# Altium schematic symbol library Schlib1.SchLib: 79 symbols (part 1 of 3)
Pins are listed as number, name and electrical type; pins without a type are passive.

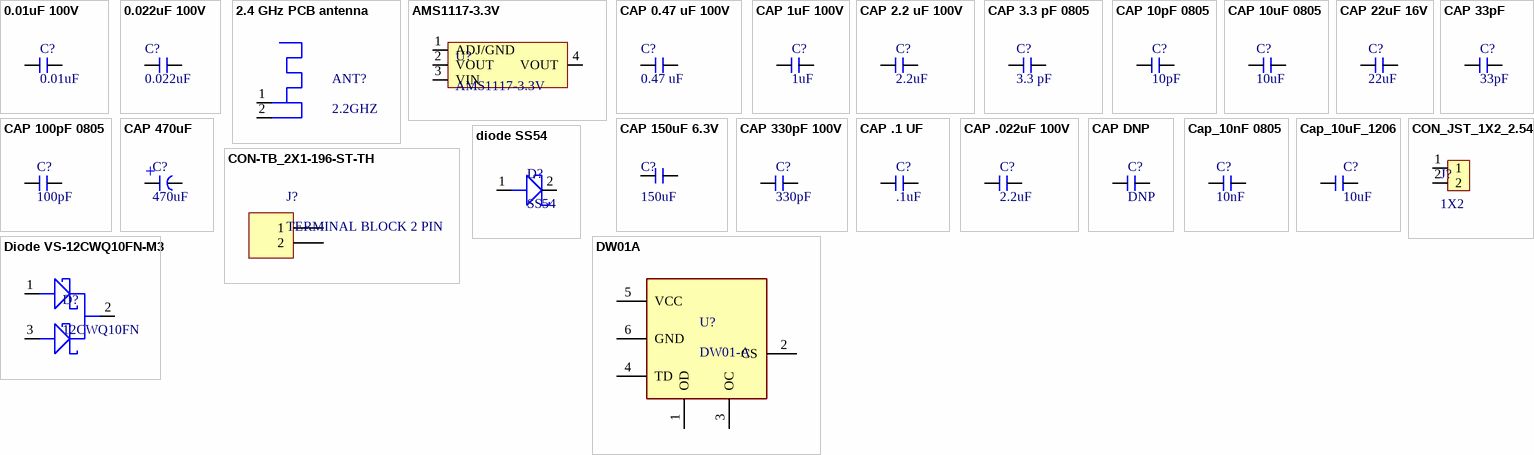
[diagram p0: symbols 0.01uF 100V to DW01A]

## 0.01uF 100V
designator C?, comment 0.01uF
Mlcc X2Y 0805 10000PF 100V X7R; Manufacturer: Johanson; Manufacturer Part Number: EMCT101W103M1GV001E; Supplier: Digikey; Supplier Part Number: 709-EMCT101W103M1GV001ECT-ND; RoHS: Yes; Category: Ceramic Capacitors; Stock: 10203; Pricing: 1=0,42, 10=0,255, 100=0,1692, 1000=0,12463 (USD); RoHS Compliant: Yes
footprint Capacitor_0805
pins: 1, 2

## 0.022uF 100V
designator C?, comment 0.022uF
Surface Mount Ceramic Multilayer Capacitor 0.022uF 10% X7R 100V 0805 Paper T/R; Manufacturer: Yageo; Manufacturer Part Number: CC0805KRX7R0BB223; Value: 22nF; Supplier: Digikey; Supplier Part Number: 311-1473-1-ND; RoHS: Yes; Category: Ceramic Capacitors; Stock: 16332; Pricing: 1=0,1, 10=0,056, 100=0,0332, 1000=0,02163 (USD); Mounting Technology: Surface Mount; Case/Package: 0805; Case Code (Imperial): 0805; Case Code (Metric): 2012; Weight: 0.000194oz; Min Operating Temperature: -55°C; Max Operating Temperature: 125°C; Packaging: Tape and Reel; Package Quantity: 1; Tolerance: 10%; Voltage Rating: 100V; Dielectric: X7R; Voltage Rating (DC): 100V; Termination: SMD/SMT; Voltage: 100V; Series: CC; Length: 2mm; Width: 0.049inch; Height: 0.85mm; Thickness: 0.037inch; Depth: 1.25mm; Radiation Hardening: No; RoHS Compliant: Yes; Reach SVHC Compliant: Unknown; Lead Free: 5697LeadFree; ComponentLink1URL: https://datasheet.ciiva.com/25613/0900766b80528518-25613134.pdf?src-supplier=Rs; ComponentLink1Description: https://datasheet.ciiva.com/25613/0900766b80528518-25613134.pdf?src-supplier=Rs; ComponentLink2URL: https://datasheet.ciiva.com/11786/0900766b80d84f7f-11786064.pdf?src-supplier=Rs; ComponentLink2Description: https://datasheet.ciiva.com/11786/0900766b80d84f7f-11786064.pdf?src-supplier=Rs; ComponentLink3URL: https://datasheet.ciiva.com/7978/1447671-7978202.pdf?src-supplier=Element14; ComponentLink3Description: https://datasheet.ciiva.com/7978/1447671-7978202.pdf?src-supplier=Element14; ComponentLink4URL: https://datasheet.ciiva.com/176/mlccorderingcode-176941.pdf?src-supplier=Digikey; ComponentLink4Description: https://datasheet.ciiva.com/176/mlccorderingcode-176941.pdf?src-supplier=Digikey; ComponentLink5URL: https://datasheet.ciiva.com/176/mlccorderingcode-176940.pdf?src-supplier=Digikey; ComponentLink5Description: https://datasheet.ciiva.com/176/mlccorderingcode-176940.pdf?src-supplier=Digikey; ComponentLink6URL: https://datasheet.ciiva.com/176/mlccorderingcode-176942.pdf?src-supplier=Digikey; ComponentLink6Description: https://datasheet.ciiva.com/176/mlccorderingcode-176942.pdf?src-supplier=Digikey; ComponentLink7URL: https://datasheet.ciiva.com/11465/upy-np0x7r-mv-100-to-630v-9-11465277.pdf?src-supplier=Avnet; ComponentLink7Description: https://datasheet.ciiva.com/11465/upy-np0x7r-mv-100-to-630v-9-11465277.pdf?src-supplier=Avnet; ComponentLink8URL: https://datasheet.ciiva.com/17033/upy-np0x7r-mv-100-to-630v-9-17033259.pdf?src-supplier=Future+Electronics; ComponentLink8Description: https://datasheet.ciiva.com/17033/upy-np0x7r-mv-100-to-630v-9-17033259.pdf?src-supplier=Future+Electronics; ComponentLink9URL: https://datasheet.ciiva.com/26829/getdatasheetpartid-251804-26829547.pdf?src-supplier=Verical; ComponentLink9Description: https://datasheet.ciiva.com/26829/getdatasheetpartid-251804-26829547.pdf?src-supplier=Verical
footprint Capacitor_0805
pins: 1, 2

## 2.4 GHz PCB antenna
designator ANT?, comment 2.2GHZ
footprint 2.4 GHz PCB antenna
pins: 1, 2

## AMS1117-3.3V
designator U?
1A Fixed 3.3V 18V SOT-223 Voltage Regulators - Linear, Low Drop Out (LDO) Regulators ROHS; Manufacturer: Tech Public; Supplier: LCSC; Supplier Part Number: C20611856; Manufacturer Part Number: AMS1117-3.3V; RoHS: No; Category: LDO; Stock: 2690; Pricing: 10=0,0402, 100=0,0315, 300=0,0271, 1000=0,0239, 4000=0,0213, 8000=0,02 (USD)
footprint SOT-223
pins: 1 ADJ/GND, 2 VOUT, 3 VIN, 4 VOUT

## CAP 0.47 uF 100V
designator C?, comment 0.47 uF
Multilayer Ceramic Capacitor, 0.47 uF, 100 V, ï¿½ 10%, X7R, 0805 [2012 Metric]; Manufacturer: Murata; Manufacturer Part Number: GRM21BR72A474KA73L; Supplier: Mouser; Supplier Part Number: 81-GRM21BR72A474KA73; RoHS: Yes; Category: Ceramic Capacitors; Stock: 10191; Pricing: 1=0,43, 10=0,242, 50=0,242, 100=0,172, 1000=0,153, 10000=0,093 (USD); Lead Free: 5697LeadFree; ComponentLink1URL: https://datasheet.ciiva.com/140/grm21br72a474ka73-140555.pdf?src-supplier=Digikey; ComponentLink1Description: https://datasheet.ciiva.com/140/grm21br72a474ka73-140555.pdf?src-supplier=Digikey; ComponentLink2URL: https://datasheet.ciiva.com/140/grm21br72a474ka73-140556.pdf?src-supplier=Digikey; ComponentLink2Description: https://datasheet.ciiva.com/140/grm21br72a474ka73-140556.pdf?src-supplier=Digikey; ComponentLink3URL: https://datasheet.ciiva.com/3777/247grm21br72a474ka7323-3777925.pdf?src-supplier=Arrow+Electronics; ComponentLink3Description: https://datasheet.ciiva.com/3777/247grm21br72a474ka7323-3777925.pdf?src-supplier=Arrow+Electronics; ComponentLink4URL: https://datasheet.ciiva.com/16440/product-16440636.pdf?src-supplier=Future+Electronics; ComponentLink4Description: https://datasheet.ciiva.com/16440/product-16440636.pdf?src-supplier=Future+Electronics; ComponentLink5URL: https://datasheet.ciiva.com/11621/product-11621821.pdf?src-supplier=Avnet; ComponentLink5Description: https://datasheet.ciiva.com/11621/product-11621821.pdf?src-supplier=Avnet
footprint Capacitor_0805
pins: 1, 2

## CAP 1uF 100V
designator C?, comment 1uF
SMD Multilayer Ceramic Capacitor, 1 ï¿½F, 100 V, 0805 [2012 Metric], ï¿½ 10%, X7S; Manufacturer: Murata; Manufacturer Part Number: GRJ21BC72A105KE11L; Material: 4241ConductorMaterial; Voltage Rating (DC): 100V; Supplier: Mouser; Supplier Part Number: 81-GRJ21BC72A105KE1L; RoHS: Yes; Category: Ceramic Capacitors; Stock: 101440; Pricing: 1=0,36, 10=0,148, 50=0,148, 100=0,123, 1000=0,115, 10000=0,071 (USD); Height: 1.5mm; ComponentLink1URL: http://www.farnell.com/datasheets/2793683.pdf?src-supplier=Farnell; ComponentLink1Description: http://www.farnell.com/datasheets/2793683.pdf?src-supplier=Farnell; ComponentLink2URL: https://datasheet.octopart.com/GRJ21BC72A105KE11L-Murata-datasheet-62335535.pdf?src-supplier=Element14; ComponentLink2Description: https://datasheet.octopart.com/GRJ21BC72A105KE11L-Murata-datasheet-62335535.pdf?src-supplier=Element14; ComponentLink3URL: http://www.farnell.com/datasheets/2793683.pdf?src-supplier=Element14; ComponentLink3Description: http://www.farnell.com/datasheets/2793683.pdf?src-supplier=Element14; ComponentLink4URL: https://datasheet.octopart.com/GRJ21BC72A105KE11L-Murata-datasheet-32479577.pdf?src-supplier=Future+Electronics; ComponentLink4Description: https://datasheet.octopart.com/GRJ21BC72A105KE11L-Murata-datasheet-32479577.pdf?src-supplier=Future+Electronics; ComponentLink5URL: http://www.farnell.com/datasheets/2793683.pdf?src-supplier=Newark; ComponentLink5Description: http://www.farnell.com/datasheets/2793683.pdf?src-supplier=Newark; ComponentLink6URL: https://www.murata.com/~/media/webrenewal/support/library/catalog/products/k70e.ashx?la=en-us&src-supplier=Digikey; ComponentLink6Description: https://www.murata.com/~/media/webrenewal/support/library/catalog/products/k70e.ashx?la=en-us&src-supplier=Digikey; ComponentLink7URL: https://datasheet.octopart.com/GRJ21BC72A105KE11L-Murata-datasheet-165579666.pdf?src-supplier=TME; ComponentLink7Description: https://datasheet.octopart.com/GRJ21BC72A105KE11L-Murata-datasheet-165579666.pdf?src-supplier=TME
footprint Capacitor_0805
pins: 1, 2

## CAP 2.2 uF 100V
designator C?, comment 2.2uF
Ceramic Capacitor Multilayer Ceramic 100V 20% +tol 20% -tol X7T 22/-33% Tc 2.2UF Surface Mount 0805; Manufacturer: Murata; Manufacturer Part Number: GRM21BD72A225ME01K; Material: 4241ConductorMaterial; Dielectric: 1545DielectricType; Supplier: Mouser; Supplier Part Number: 81-GRM21BD72A225ME1K; RoHS: No; Category: Ceramic Capacitors; Stock: 42487; Pricing: 1=0,41, 10=0,247, 50=0,247, 100=0,164, 1000=0,12, 10000=0,092 (USD); Case/Package: 339Case; Min Operating Temperature: -55°C; Max Operating Temperature: 125°C; Voltage Rating: 100V; Voltage Rating (DC): 100V; Value: 2.2uF; Tolerance: 20%; Length: 2mm; Width: 1.25mm; Height: 1.45mm; Thickness: 1.25mm
footprint Capacitor_0805
pins: 1, 2

## CAP 3.3 pF 0805
designator C?, comment 3.3 pF
Multilayer Ceramic Capacitor, 3.3 pF, 50 V, ± 0.1pF, C0G (NP0), 0805 [2012 Metric]; Manufacturer: Yageo; Manufacturer Part Number: CC0805BRNPO9BN3R3; Supplier: Digikey; Supplier Part Number: 311-4130-1-ND; RoHS: Yes; Category: Ceramic Capacitors; Stock: 19725; Pricing: 1=0,13, 10=0,075, 100=0,0453, 1000=0,03028 (USD); Halogen Free: 5694HalogenFree; ComponentLink1URL: http://www.mouser.com/ds/2/447/Yageo_UPY-GP_NP0_16V-to-50V_9-358835.pdf?src-supplier=Mouser; ComponentLink1Description: http://www.mouser.com/ds/2/447/Yageo_UPY-GP_NP0_16V-to-50V_9-358835.pdf?src-supplier=Mouser; ComponentLink2URL: https://datasheet.octopart.com/CC0805BRNPO9BN3R3-Yageo-datasheet-151948684.pdf?src-supplier=Newark; ComponentLink2Description: https://datasheet.octopart.com/CC0805BRNPO9BN3R3-Yageo-datasheet-151948684.pdf?src-supplier=Newark; ComponentLink3URL: https://datasheet.octopart.com/CC0805BRNPO9BN3R3-Yageo-datasheet-151948684.pdf?src-supplier=Farnell; ComponentLink3Description: https://datasheet.octopart.com/CC0805BRNPO9BN3R3-Yageo-datasheet-151948684.pdf?src-supplier=Farnell; ComponentLink4URL: http://www.yageo.com/documents/recent/UPY-GP_NP0_16V-to-50V_8.pdf?src-supplier=Avnet; ComponentLink4Description: http://www.yageo.com/documents/recent/UPY-GP_NP0_16V-to-50V_8.pdf?src-supplier=Avnet; ComponentLink5URL: https://www.yageo.com/upload/media/product/productsearch/datasheet/mlcc/UPY-GP_NP0_16V-to-50V_18.pdf?src-supplier=Digikey; ComponentLink5Description: https://www.yageo.com/upload/media/product/productsearch/datasheet/mlcc/UPY-GP_NP0_16V-to-50V_18.pdf?src-supplier=Digikey; ComponentLink6URL: http://www.yageo.com/exep/pages/download/literatures/ProductSelectionGuide%202014_Final_2.pdf?src-supplier=Digikey; ComponentLink6Description: http://www.yageo.com/exep/pages/download/literatures/ProductSelectionGuide%202014_Final_2.pdf?src-supplier=Digikey; ComponentLink7URL: http://www.yageo.com/documents/recent/UPY-GP_NP0_16V-to-50V_9.pdf?src-supplier=Future+Electronics; ComponentLink7Description: http://www.yageo.com/documents/recent/UPY-GP_NP0_16V-to-50V_9.pdf?src-supplier=Future+Electronics; ComponentLink8URL: https://datasheet.octopart.com/CC0805BRNPO9BN3R3-Yageo-datasheet-137700082.pdf?src-supplier=Future+Electronics; ComponentLink8Description: https://datasheet.octopart.com/CC0805BRNPO9BN3R3-Yageo-datasheet-137700082.pdf?src-supplier=Future+Electronics
footprint Capacitor_0805
pins: 1, 2

## CAP 10pF 0805
designator C?, comment 10pF
Multilayer Ceramic Capacitor, 10 pF, 50 V, ï¿½ 5%, C0G (NP0), 0805 [2012 Metric]; Manufacturer: Yageo; Manufacturer Part Number: CC0805JRNPO9BN100; Temperature Coefficient: 30ppm/°C; Supplier: Digikey; Supplier Part Number: 311-1099-1-ND; RoHS: Yes; Category: Ceramic Capacitors; Stock: 29904; Pricing: 1=0,1, 10=0,048, 100=0,0284, 1000=0,01828 (USD); Pins: 2NUMBER; Halogen Free: 5694HalogenFree; Lead Free: 5697LeadFree; ComponentLink1URL: https://datasheet.ciiva.com/144/mlccorderingcode-144670.pdf?src-supplier=Digikey; ComponentLink1Description: https://datasheet.ciiva.com/144/mlccorderingcode-144670.pdf?src-supplier=Digikey; ComponentLink2URL: https://datasheet.ciiva.com/144/mlccorderingcode-144671.pdf?src-supplier=Digikey; ComponentLink2Description: https://datasheet.ciiva.com/144/mlccorderingcode-144671.pdf?src-supplier=Digikey; ComponentLink3URL: https://datasheet.ciiva.com/144/mlccorderingcode-144672.pdf?src-supplier=Digikey; ComponentLink3Description: https://datasheet.ciiva.com/144/mlccorderingcode-144672.pdf?src-supplier=Digikey; ComponentLink4URL: https://datasheet.ciiva.com/11464/upy-gp-np0-16v-to-50v-8-11464744.pdf?src-supplier=Avnet; ComponentLink4Description: https://datasheet.ciiva.com/11464/upy-gp-np0-16v-to-50v-8-11464744.pdf?src-supplier=Avnet
footprint Capacitor_0805
pins: 1, 2

## CAP 10uF 0805
designator C?, comment 10uF
16V 10uF X7R ±10% 0805 Multilayer Ceramic Capacitors MLCC - SMD/SMT ROHS; Manufacturer: Samsung; Manufacturer Part Number: CL21B106KOQNNNE; Material: 4241ConductorMaterial; Supplier: Digikey; Supplier Part Number: 1276-2872-1-ND; RoHS: Yes; Category: Ceramic Capacitors; Stock: 20461; Pricing: 1=0,09, 10=0,037, 100=0,0354 (USD); Mounting Technology: Surface Mount; Case/Package: 0805; Case Code (Metric): 2012; Case Code (Imperial): 0805; Min Operating Temperature: -55°C; Max Operating Temperature: 125°C; Tolerance: 10%; Packaging: Tape and Reel; Value: 10uF; Voltage Rating: 16V; Package Quantity: 1; Dielectric: X7R; Voltage: 16V; Series: CL; Construction: Flat; Voltage Rating (DC): 16V; Length: 2mm; Width: 0.049inch; Height: 1.25mm; Thickness: 0.055inch; Depth: 1.25mm; Radiation Hardening: No; RoHS Compliant: Yes; ComponentLink1URL: https://datasheet.ciiva.com/25794/cl21b106koqnnne-25794472.pdf?src-supplier=Digikey; ComponentLink1Description: https://datasheet.ciiva.com/25794/cl21b106koqnnne-25794472.pdf?src-supplier=Digikey; ComponentLink2URL: https://datasheet.ciiva.com/16428/cl21b106koqnnne-16428887.pdf?src-supplier=Future+Electronics; ComponentLink2Description: https://datasheet.ciiva.com/16428/cl21b106koqnnne-16428887.pdf?src-supplier=Future+Electronics; ComponentLink3URL: https://datasheet.ciiva.com/26920/getdatasheetpartid-355170-26920201.pdf?src-supplier=Verical; ComponentLink3Description: https://datasheet.ciiva.com/26920/getdatasheetpartid-355170-26920201.pdf?src-supplier=Verical
footprint Capacitor_0805
pins: 1, 2

## CAP 22uF 16V
designator C?, comment 22uF
0805 22 uF 16 V ±20% Tolerance X5R SMT Multilayer Ceramic Capacitor; Manufacturer: Yageo; Manufacturer Part Number: CC0805MKX5R7BB226; Voltage Rating: 16V; Supplier: Digikey; Supplier Part Number: 13-CC0805MKX5R7BB226CT-ND; RoHS: Yes; Category: Ceramic Capacitors; Stock: 2753; Pricing: 1=0,47, 10=0,286, 100=0,191, 1000=0,14191 (USD); Mounting Technology: Surface Mount; Case/Package: 0805; Case Code (Metric): 2012; Case Code (Imperial): 0805; Weight: 0.000194oz; Min Operating Temperature: -55°C; Max Operating Temperature: 85°C; Value: 22uF; Dielectric: X5R; Packaging: Tape and Reel; Tolerance: 20%; Termination: SMD/SMT; Voltage Rating (DC): 16V; Package Quantity: 3000; Series: CC; Length: 0.079inch; Width: 0.049inch; Thickness: 0.057inch; Lead Free: Lead Free; Halogen Free: Halogen Free; RoHS Compliant: Yes; ComponentLink1URL: http://www.yageo.com/documents/recent/UPY-GPHC_X5R_4V-to-50V_25.pdf?src-supplier=Digikey; ComponentLink1Description: http://www.yageo.com/documents/recent/UPY-GPHC_X5R_4V-to-50V_25.pdf?src-supplier=Digikey; ComponentLink2URL: https://www.yageo.com/upload/media/product/productsearch/datasheet/mlcc/UPY-GPHC_X5R_4V-to-50V_26.pdf?src-supplier=Digikey; ComponentLink2Description: https://www.yageo.com/upload/media/product/productsearch/datasheet/mlcc/UPY-GPHC_X5R_4V-to-50V_26.pdf?src-supplier=Digikey; ComponentLink3URL: https://datasheet.octopart.com/CC0805MKX5R7BB226-Yageo-datasheet-170350636.pdf?src-supplier=Future+Electronics; ComponentLink3Description: https://datasheet.octopart.com/CC0805MKX5R7BB226-Yageo-datasheet-170350636.pdf?src-supplier=Future+Electronics
footprint Capacitor_0805
pins: 1, 2

## CAP 33pF
designator C?, comment 33pF
Multilayer Ceramic Capacitor, 33 pF, 50 V, ï¿½ 5, C0G (NP0), 0805 [2012 Metric]; Manufacturer: Yageo; Manufacturer Part Number: CC0805JRNPO9BN330; Dielectric Material: 4241ConductorMaterial; Temperature Coefficient: 30ppm/°C; Voltage Rating (AC): 50V; Supplier: Arrow Electronics; Supplier Part Number: CC0805JRNPO9BN330; RoHS: Yes; Category: Ceramic Capacitors; Stock: 532000; Pricing: 4000=0,0099, 8000=0,0078, 12000=0,0077, 20000=0,005 (USD); Halogen Free: 5694HalogenFree; Lead Free: 5697LeadFree; ComponentLink1URL: https://datasheet.ciiva.com/8033/1443161-8033942.pdf?src-supplier=Element14; ComponentLink1Description: https://datasheet.ciiva.com/8033/1443161-8033942.pdf?src-supplier=Element14; ComponentLink2URL: https://datasheet.ciiva.com/8033/1443161-8033944.pdf?src-supplier=Element14; ComponentLink2Description: https://datasheet.ciiva.com/8033/1443161-8033944.pdf?src-supplier=Element14; ComponentLink3URL: https://datasheet.ciiva.com/144/mlccorderingcode-144778.pdf?src-supplier=Digikey; ComponentLink3Description: https://datasheet.ciiva.com/144/mlccorderingcode-144778.pdf?src-supplier=Digikey; ComponentLink4URL: https://datasheet.ciiva.com/144/mlccorderingcode-144779.pdf?src-supplier=Digikey; ComponentLink4Description: https://datasheet.ciiva.com/144/mlccorderingcode-144779.pdf?src-supplier=Digikey; ComponentLink5URL: https://datasheet.ciiva.com/144/mlccorderingcode-144780.pdf?src-supplier=Digikey; ComponentLink5Description: https://datasheet.ciiva.com/144/mlccorderingcode-144780.pdf?src-supplier=Digikey; ComponentLink6URL: https://datasheet.ciiva.com/11464/upy-gp-np0-16v-to-50v-8-11464747.pdf?src-supplier=Avnet; ComponentLink6Description: https://datasheet.ciiva.com/11464/upy-gp-np0-16v-to-50v-8-11464747.pdf?src-supplier=Avnet; ComponentLink7URL: https://datasheet.ciiva.com/29241/445349-da-01-en-kerko-chip-0805-np0-33pf-5proz-50v-g-29241975.pdf?src-supplier=Conrad; ComponentLink7Description: https://datasheet.ciiva.com/29241/445349-da-01-en-kerko-chip-0805-np0-33pf-5proz-50v-g-29241975.pdf?src-supplier=Conrad
footprint Capacitor_0805
pins: 1, 2

## CAP 100pF 0805
designator C?, comment 100pF
0805 100 pF 50 V ±5 % Tolerance NP0 SMT Multilayer Ceramic Capacitor; Manufacturer: Yageo; Manufacturer Part Number: CC0805JRNPO9BN101; Material: 4241ConductorMaterial; Tolerance: 5%; Dielectric: C0G; Voltage Rating: 50V; Temperature Coefficient: 30ppm/°C; Insulation Resistance: 100GR; Supplier: Arrow Electronics; Supplier Part Number: CC0805JRNPO9BN101; RoHS: Yes; Category: Ceramic Capacitors; Stock: 6144000; Pricing: 4000=0,0128, 8000=0,0088, 12000=0,0087, 28000=0,0086, 40000=0,0073, 100000=0,0072, 200000=0,005 (USD); Mounting Technology: Surface Mount; Case/Package: 0805; Pins: 2; Case Code (Imperial): 0805; Case Code (Metric): 2012; Dielectric Material: Ceramic; Min Operating Temperature: -55°C; Max Operating Temperature: 125°C; Value: 100pF; Packaging: Tape and Reel; Package Quantity: 4000; Voltage Rating (DC): 50V; Termination: SMD/SMT; Series: CC; Voltage Rating (AC): 50V; Length: 2mm; Width: 1.25mm; Height: 0.6mm; Depth: 1.25mm; Radiation Hardening: No; RoHS Compliant: Yes; Reach SVHC Compliant: No; Lead Free: Lead Free; Halogen Free: 5694HalogenFree; ComponentLink1URL: https://datasheet.ciiva.com/5425/upy-gp-np0-16v-to-50v-8-217813-5425504.pdf?src-supplier=Mouser; ComponentLink1Description: https://datasheet.ciiva.com/5425/upy-gp-np0-16v-to-50v-8-217813-5425504.pdf?src-supplier=Mouser; ComponentLink2URL: https://datasheet.ciiva.com/144/mlccorderingcode-144855.pdf?src-supplier=Digikey; ComponentLink2Description: https://datasheet.ciiva.com/144/mlccorderingcode-144855.pdf?src-supplier=Digikey; ComponentLink3URL: https://datasheet.ciiva.com/144/mlccorderingcode-144854.pdf?src-supplier=Digikey; ComponentLink3Description: https://datasheet.ciiva.com/144/mlccorderingcode-144854.pdf?src-supplier=Digikey; ComponentLink4URL: https://datasheet.ciiva.com/144/mlccorderingcode-144856.pdf?src-supplier=Digikey; ComponentLink4Description: https://datasheet.ciiva.com/144/mlccorderingcode-144856.pdf?src-supplier=Digikey; ComponentLink5URL: https://datasheet.ciiva.com/8033/1443161-8033950.pdf?src-supplier=Element14; ComponentLink5Description: https://datasheet.ciiva.com/8033/1443161-8033950.pdf?src-supplier=Element14; ComponentLink6URL: https://datasheet.ciiva.com/11464/upy-gp-np0-16v-to-50v-8-11464745.pdf?src-supplier=Avnet; ComponentLink6Description: https://datasheet.ciiva.com/11464/upy-gp-np0-16v-to-50v-8-11464745.pdf?src-supplier=Avnet; ComponentLink7URL: https://datasheet.ciiva.com/8033/1443161-8033947.pdf?src-supplier=Element14; ComponentLink7Description: https://datasheet.ciiva.com/8033/1443161-8033947.pdf?src-supplier=Element14; ComponentLink8URL: https://datasheet.ciiva.com/26829/getdatasheetpartid-92514-26829509.pdf?src-supplier=Verical; ComponentLink8Description: https://datasheet.ciiva.com/26829/getdatasheetpartid-92514-26829509.pdf?src-supplier=Verical
footprint Capacitor_0805
pins: 1, 2

## CAP 150uF 6.3V
designator C?, comment 150uF
1206 150 uF 6.3 V ±20% Tolerance X5R SMT Multilayer Ceramic Capacitor; Manufacturer: Murata; Manufacturer Part Number: GRM31CR60J157ME11L; Material: 4241ConductorMaterial; Supplier: Farnell; Supplier Part Number: 2494474; RoHS: Yes; Category: Ceramic Capacitors; Pricing: 5=0,871, 50=0,603, 250=0,567, 500=0,53, 1000=0,52 (EUR); Height: 1.9mm; ComponentLink1URL: http://www.farnell.com/datasheets/2867878.pdf?src-supplier=Farnell; ComponentLink1Description: http://www.farnell.com/datasheets/2867878.pdf?src-supplier=Farnell; ComponentLink2URL: http://www.farnell.com/datasheets/2867878.pdf?src-supplier=Newark; ComponentLink2Description: http://www.farnell.com/datasheets/2867878.pdf?src-supplier=Newark; ComponentLink3URL: https://datasheet.octopart.com/GRM31CR60J157ME11L-Murata-datasheet-46912537.pdf?src-supplier=Element14; ComponentLink3Description: https://datasheet.octopart.com/GRM31CR60J157ME11L-Murata-datasheet-46912537.pdf?src-supplier=Element14; ComponentLink4URL: http://search.murata.co.jp/Ceramy/image/img/A01X/G101/ENG/GRM31CR60J157ME11-01.pdf?src-supplier=Digikey; ComponentLink4Description: http://search.murata.co.jp/Ceramy/image/img/A01X/G101/ENG/GRM31CR60J157ME11-01.pdf?src-supplier=Digikey
footprint Capacitor_1206_SMD
pins: 1, 2

## CAP 330pF 100V
designator C?, comment 330pF
Surface Mount Ceramic Multilayer Capacitor 330pF 10% X7R 100V 0805 Paper T/R; Manufacturer: Yageo; Manufacturer Part Number: CC0805KRX7R0BB331; Supplier: Digikey; Supplier Part Number: 311-4307-1-ND; RoHS: Yes; Category: Ceramic Capacitors; Stock: 8984; Pricing: 1=0,11, 10=0,058, 100=0,0349, 1000=0,02286 (USD); ComponentLink1URL: https://datasheet.ciiva.com/13264/yageo-486313-494411-13264106.pdf?src-supplier=Mouser; ComponentLink1Description: https://datasheet.ciiva.com/13264/yageo-486313-494411-13264106.pdf?src-supplier=Mouser; ComponentLink2URL: https://datasheet.ciiva.com/17201/upy-np0x7r-mv-100-to-630v-9-17201131.pdf?src-supplier=Future+Electronics; ComponentLink2Description: https://datasheet.ciiva.com/17201/upy-np0x7r-mv-100-to-630v-9-17201131.pdf?src-supplier=Future+Electronics
footprint Capacitor_0805
pins: 1, 2

## CAP 470uF
designator C?, comment 470uF
Aluminum Electrolytic Capacitor, 470 uF, 16 V, ± 20%, 2000 hours @ 105°C, Radial Can - SMD; Manufacturer: Panasonic; Manufacturer Part Number: EEE-HBC471UAP; Voltage Rating: 16V; Ripple Current: 240mA; Leakage Current: 3uA; Dissipation Factor: 0.4%; Supplier: Mouser; Supplier Part Number: 667-EEE-HBC471UAP; RoHS: Yes; Category: Aluminum Electrolytic Capacitors; Stock: 104; Pricing: 1=1,02, 10=0,557, 50=0,557, 100=0,472, 1000=0,349, 10000=0,315 (USD); Mounting Technology: Surface Mount; Case/Package: Radial; Min Operating Temperature: -40°C; Max Operating Temperature: 105°C; Value: 470uF; Tolerance: 20%; Packaging: Tape and Reel; Package Quantity: 500; Voltage Rating (DC): 16V; Life (Hours): 2000Hour; Termination: SMD/SMT; Voltage: 16V; Series: HB; Construction: Cylindrical; Diameter: 8mm; Length: 10.2mm; Height: 10.2mm; Ratings: AEC-Q200; Radiation Hardening: No; RoHS Compliant: Yes; ComponentLink1URL: https://datasheet.ciiva.com/11780/0900766b80bed47d-11780359.pdf?src-supplier=Rs; ComponentLink1Description: https://datasheet.ciiva.com/11780/0900766b80bed47d-11780359.pdf?src-supplier=Rs; ComponentLink2URL: https://datasheet.ciiva.com/2985/aba0000ce117-2985891.pdf?src-supplier=Avnet; ComponentLink2Description: https://datasheet.ciiva.com/2985/aba0000ce117-2985891.pdf?src-supplier=Avnet; ComponentLink3URL: https://datasheet.ciiva.com/2985/aba0000ce117-2985890.pdf?src-supplier=Avnet; ComponentLink3Description: https://datasheet.ciiva.com/2985/aba0000ce117-2985890.pdf?src-supplier=Avnet; ComponentLink4URL: https://datasheet.ciiva.com/30093/aba0000ce117-30093671.pdf?src-supplier=Onlinecomponents.com; ComponentLink4Description: https://datasheet.ciiva.com/30093/aba0000ce117-30093671.pdf?src-supplier=Onlinecomponents.com
footprint CAP SMD,D8xL10.2mm
pins: 1, 2
text: +

## CAP .1 UF
designator C?, comment .1uF
Cap Ceramic 0.1uF 100V X7R 10% Pad SMD 0805 Fail Safe with Soft Termination 125C Automotive T/R; Manufacturer: Murata; Manufacturer Part Number: GCE21BR72A104KA01L; Material: 4241ConductorMaterial; Value: 100nF; Supplier: Mouser; Supplier Part Number: 81-GCE21BR72A104KA1L; RoHS: Yes; Category: Ceramic Capacitors; Stock: 45477; Pricing: 1=0,25, 10=0,152, 50=0,152, 100=0,1, 1000=0,073, 10000=0,055 (USD); Mounting Technology: Surface Mount; Case/Package: 0805; Case Code (Imperial): 0805; Case Code (Metric): 2012; Min Operating Temperature: -55°C; Max Operating Temperature: 125°C; Features: Soft Termination; Packaging: Cut Tape; Tolerance: 10%; Voltage Rating: 100V; Series: GCE; Length: 2mm; Width: 1.25mm; Height: 1.45mm; Thickness: 1.25mm; Ratings: AEC-Q200; Lead Free: Lead Free; RoHS Compliant: Yes; ComponentLink1URL: http://search.murata.co.jp/Ceramy/image/img/A01X/partnumbering_e_02.pdf?src-supplier=Digikey; ComponentLink1Description: http://search.murata.co.jp/Ceramy/image/img/A01X/partnumbering_e_02.pdf?src-supplier=Digikey; ComponentLink2URL: http://search.murata.co.jp/Ceramy/image/img/A01X/G101/ENG/GCE21BR72A104KA01-01.pdf?src-supplier=Digikey; ComponentLink2Description: http://search.murata.co.jp/Ceramy/image/img/A01X/G101/ENG/GCE21BR72A104KA01-01.pdf?src-supplier=Digikey
footprint FB_0805
pins: 1, 2

## CAP .022uF 100V
designator C?, comment 2.2uF
Ceramic Capacitor, Multilayer, Ceramic, 100V, 10% +Tol, 10% -Tol, X7R, 15% TC, 0.022uF, 1206; Manufacturer: Yageo; Manufacturer Part Number: CC1206KKX7R0BB225; Material: 4241ConductorMaterial; Supplier: Digikey; Supplier Part Number: 311-3450-1-ND; RoHS: Yes; Category: Ceramic Capacitors; Stock: 35024; Pricing: 1=0,61, 10=0,379, 100=0,2587, 1000=0,19636 (USD); Height: 1.9mm; ComponentLink1URL: https://datasheet.octopart.com/CC1206KKX7R0BB225-Yageo-datasheet-101324229.pdf?src-supplier=Newark; ComponentLink1Description: https://datasheet.octopart.com/CC1206KKX7R0BB225-Yageo-datasheet-101324229.pdf?src-supplier=Newark; ComponentLink2URL: https://www.yageo.com/upload/media/product/products/datasheet/mlcc/UPY-NP0X7R_MV_100-to-630V_21.pdf?src-supplier=Digikey; ComponentLink2Description: https://www.yageo.com/upload/media/product/products/datasheet/mlcc/UPY-NP0X7R_MV_100-to-630V_21.pdf?src-supplier=Digikey; ComponentLink3URL: http://www.yageo.com/documents/recent/UPY-NP0X7R_MV_100-to-630V_21.pdf?src-supplier=Digikey; ComponentLink3Description: http://www.yageo.com/documents/recent/UPY-NP0X7R_MV_100-to-630V_21.pdf?src-supplier=Digikey; ComponentLink4URL: http://www.yageo.com/documents/recent/UPY-NP0X7R_MV_100-to-630V_18.pdf?src-supplier=Digikey; ComponentLink4Description: http://www.yageo.com/documents/recent/UPY-NP0X7R_MV_100-to-630V_18.pdf?src-supplier=Digikey; ComponentLink5URL: https://datasheet.octopart.com/CC1206KKX7R0BB225-Yageo-datasheet-137700082.pdf?src-supplier=Future+Electronics; ComponentLink5Description: https://datasheet.octopart.com/CC1206KKX7R0BB225-Yageo-datasheet-137700082.pdf?src-supplier=Future+Electronics
footprint Capacitor_1206_SMD
pins: 1, 2

## CAP DNP
designator C?, comment DNP
footprint Capacitor_0805
pins: 1, 2

## Cap_10nF 0805
designator C?, comment 10nF
Multilayer Ceramic Capacitor, 0.01 uF, 50 V, ï¿½ 10%, X7R, 0805 [2012 Metric]; Manufacturer: Samsung; Manufacturer Part Number: CL21B103KBANNNC; Voltage: 50V; Supplier: Digikey; Supplier Part Number: 1276-1015-1-ND; RoHS: Yes; Category: Ceramic Capacitors; Stock: 2729; Pricing: 1=0,08, 10=0,011, 100=0,0096, 1000=0,0072 (USD); Mounting Technology: Surface Mount; Case/Package: 0805; Pins: 2; Case Code (Metric): 2012; Case Code (Imperial): 0805; Material: Ceramic; Min Operating Temperature: -55°C; Max Operating Temperature: 125°C; Value: 10nF; Tolerance: 10%; Dielectric: X7R; Voltage Rating (DC): 50V; Packaging: Tape and Reel; Voltage Rating: 50V; Series: CL; Construction: Flat; Length: 2mm; Height: 0.65mm; Depth: 1.25mm; Radiation Hardening: No; Lead Free: Lead Free; RoHS Compliant: Yes; ComponentLink1URL: https://datasheet.ciiva.com/25709/cl21b103kbannnc-25709781.pdf?src-supplier=Digikey; ComponentLink1Description: https://datasheet.ciiva.com/25709/cl21b103kbannnc-25709781.pdf?src-supplier=Digikey; ComponentLink2URL: https://datasheet.ciiva.com/29199/455082-da-01-en-vs-kondensator-0805-29199459.pdf?src-supplier=Conrad; ComponentLink2Description: https://datasheet.ciiva.com/29199/455082-da-01-en-vs-kondensator-0805-29199459.pdf?src-supplier=Conrad
footprint Capacitor_0805
pins: 1, 2

## Cap_10uF_1206
designator C?, comment 10uF
Multilayer Ceramic Capacitor, 10 uF, 50 V, ï¿½ 10%, X7R, 1206 [3216 Metric]; Manufacturer: Samsung; Manufacturer Part Number: CL31B106KBHNNNE; Voltage Rating (DC): 50V; Supplier: Digikey; Supplier Part Number: 1276-6767-1-ND; RoHS: Yes; Category: Ceramic Capacitors; Stock: 207136; Pricing: 1=0,25, 10=0,15, 100=0,1008, 1000=0,0728 (USD); Mounting Technology: Surface Mount; Case/Package: 1206; Case Code (Metric): 3216; Case Code (Imperial): 1206; Material: Ceramic; Min Operating Temperature: -55°C; Max Operating Temperature: 125°C; Value: 10uF; Tolerance: 10%; Dielectric: X7R; Packaging: Cut Tape; Voltage Rating: 50V; Series: CL; Height: 1.8mm; Lead Free: Lead Free; RoHS Compliant: Yes; ComponentLink1URL: https://datasheet.octopart.com/CL31B106KBHNNNE-Samsung-Electro-Mechanics-datasheet-149066874.pdf?src-supplier=Future+Electronics; ComponentLink1Description: https://datasheet.octopart.com/CL31B106KBHNNNE-Samsung-Electro-Mechanics-datasheet-149066874.pdf?src-supplier=Future+Electronics; ComponentLink2URL: http://www.samsungsem.com/kr/support/product-search/mlcc/CL31B106KBHNNNE.jsp?src-supplier=Digikey; ComponentLink2Description: http://www.samsungsem.com/kr/support/product-search/mlcc/CL31B106KBHNNNE.jsp?src-supplier=Digikey; ComponentLink3URL: https://datasheet.octopart.com/CL31B106KBHNNNE-Samsung-Electro-Mechanics-datasheet-137256395.pdf?src-supplier=Farnell; ComponentLink3Description: https://datasheet.octopart.com/CL31B106KBHNNNE-Samsung-Electro-Mechanics-datasheet-137256395.pdf?src-supplier=Farnell; ComponentLink4URL: https://datasheet.octopart.com/CL31B106KBHNNNE-Samsung-Electro-Mechanics-datasheet-110617700.pdf?src-supplier=LCSC; ComponentLink4Description: https://datasheet.octopart.com/CL31B106KBHNNNE-Samsung-Electro-Mechanics-datasheet-110617700.pdf?src-supplier=LCSC
footprint Capacitor_1206_SMD
pins: 1, 2

## CON-TB_2X1-196-ST-TH
designator J?, comment TERMINAL BLOCK 2 PIN
2 Pins, 1 Row 5mm Pitch, straight Connector, male; Manufacturer: Phoenix Contact; Manufacturer Part Number: MKDSN1,5/2; Alternate Part Number-1: NA; Case/Package: TH-CON; Supplier-1: SP ROAD; Supplier Part Number-1: MKDSN1,5/2
footprint CON2_P196_1729128_TH_ST (Terminal Block)
pins: 1, 2

## CON_JST_1X2_2.54
designator J?, comment 1X2
Conn Shrouded Header HDR 2 POS 2.5mm Solder ST Thru-Hole Box; Manufacturer: JST; Manufacturer Part Number: B2B-XH-2(LF)(SN); Number of Contacts: 2NUMBER; Number of Positions: 2; Voltage Rating: 250V; Supplier: Mouser; Supplier Part Number: 306-B2B-XH-2LFSN; RoHS: Yes; Category: Headers and Wire Housings; Stock: 1704; Pricing: 1=0,2, 10=0,158, 50=0,131, 100=0,117, 1000=0,072, 10000=0,07 (USD); Mounting Technology: Through Hole; Contact Material: Brass; Contact Shape: Square; Contact Finish - Mating: TIN; Insulation Material: Nylon; Insulation Color: Natural; Min Operating Temperature: -25°C; Max Operating Temperature: 85°C; Number of Rows: 1; Termination: Press-Fit; Series: XH; Packaging: Bulk; Contact Type: Male Pin; Connector Type: Header; Fastening Type: Detent; Flammability Rating: UL94 V-0
footprint 1X2_2.53_JST
pins: 1, 2

## diode SS54
designator D?, comment SS54
40V Independent Type 550mV@5A 5A SMA(DO-214AC) Schottky Diodes ROHS
footprint DO-214AC
pins: 1, 2

## Diode VS-12CWQ10FN-M3
designator D?, comment 12CWQ10FN
Rectifier Diode Schottky 100V 12A 3-Pin(2+Tab) DPAK Tube / DIODE ARRAY SCHOTTKY 100V DPAK; Manufacturer: Vishay Semiconductors; Manufacturer Part Number: VS-12CWQ10FN-M3; Supplier: Arrow Electronics; Supplier Part Number: VS-12CWQ10FN-M3; RoHS: Yes; Category: Rectifier Diodes; Stock: 5265; Pricing: 1=0,9149, 10=0,683, 25=0,4884, 100=0,445, 500=0,4019, 1000=0,3763 (USD); ComponentLink1URL: https://datasheet.ciiva.com/8288/12cwq10f-8288568.pdf?src-supplier=Avnet; ComponentLink1Description: https://datasheet.ciiva.com/8288/12cwq10f-8288568.pdf?src-supplier=Avnet
footprint 12CWQ10FN
pins: 1, 2, 3

## DW01A
designator U?, comment DW01-A
SOT-23-6L Battery Management ICs ROHS; Manufacturer: PUOLOP; Manufacturer Part Number: DW01A; Supplier: LCSC; Supplier Part Number: C351410; RoHS: No; Category: LDO; Stock: 5760; Pricing: 20=0,0398, 200=0,0333, 600=0,0296, 3000=0,0251, 9000=0,0232, 21000=0,0222 (USD)
footprint SOT-23-6
pins: 1 OD, 2 CS, 3 OC, 4 TD, 5 VCC, 6 GND

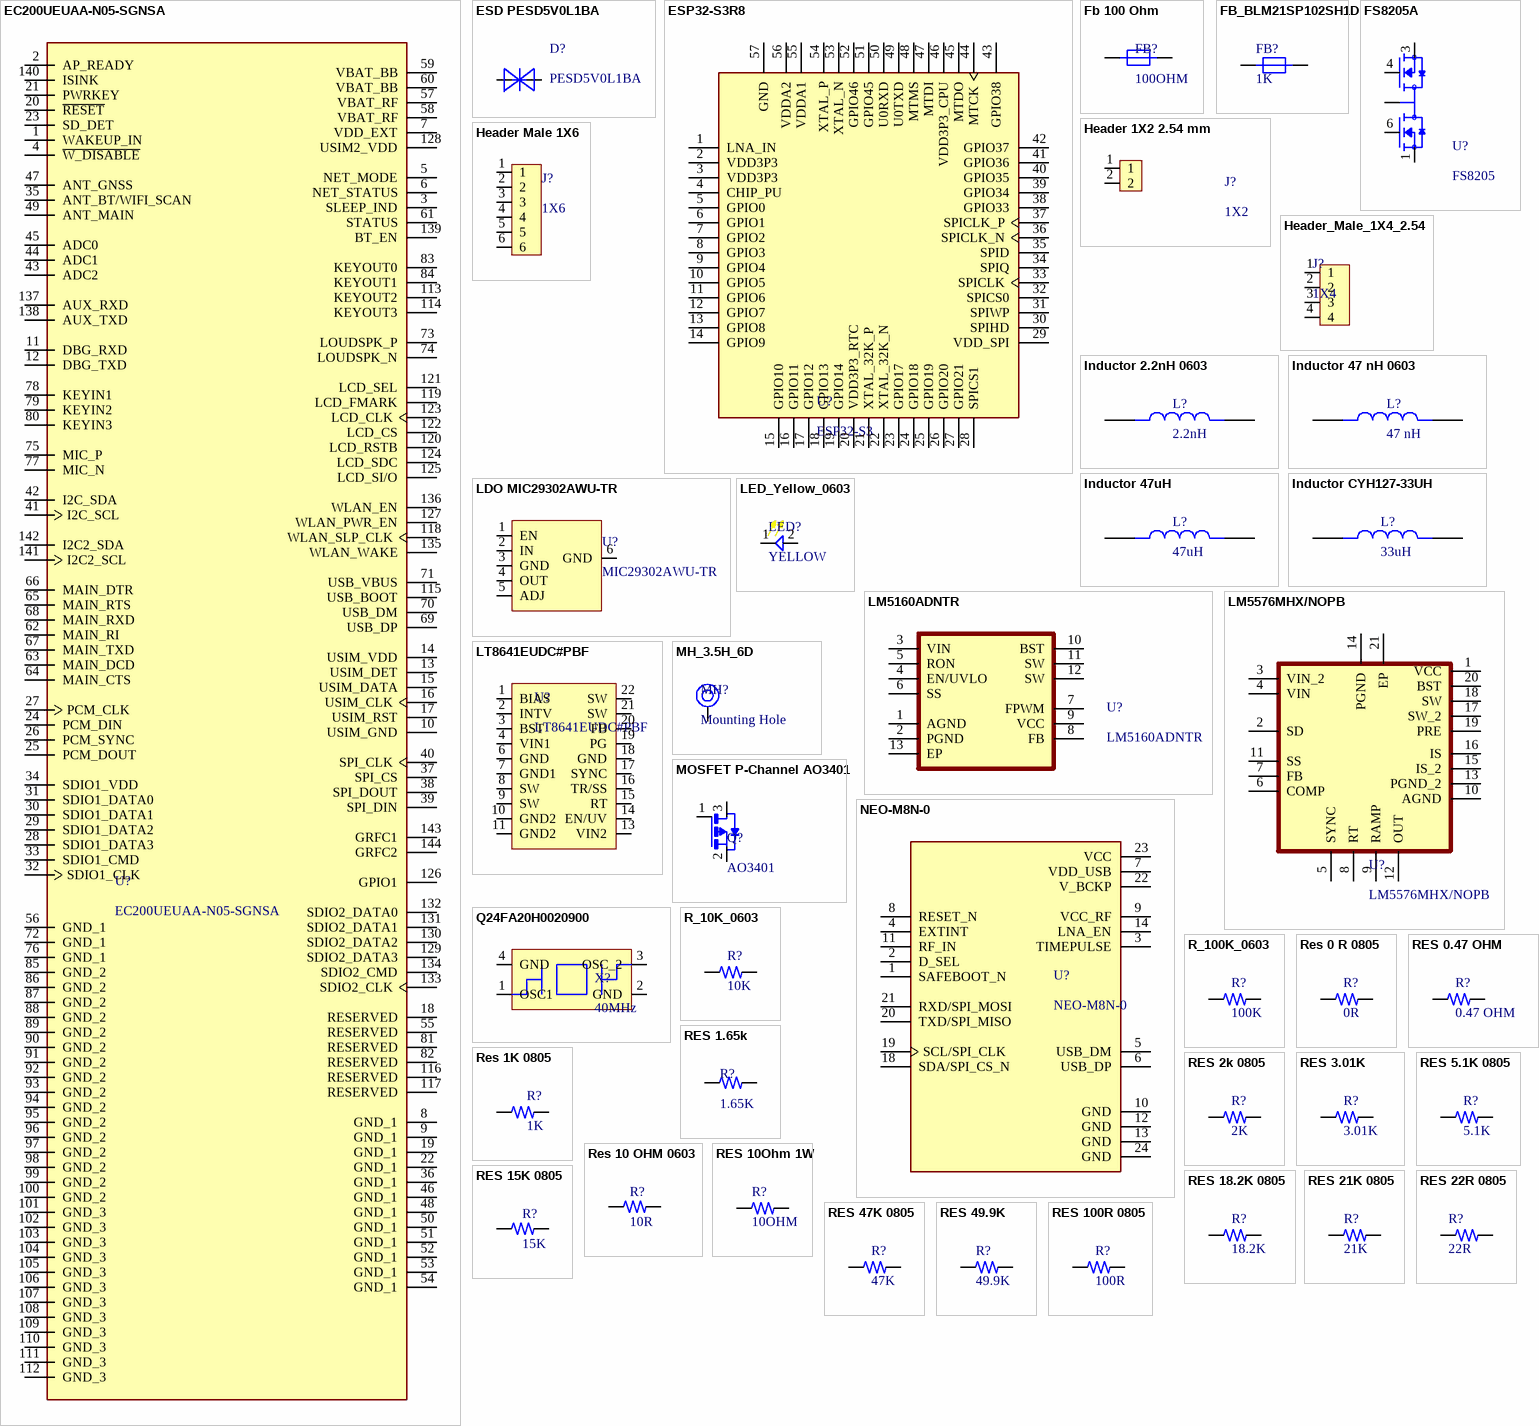
[diagram p1: symbols EC200UEUAA-N05-SGNSA to RES 100R 0805]

## EC200UEUAA-N05-SGNSA
designator U?
Manufacturer: Quectel Wireless Solutions; Supplier: Digikey; Supplier Part Number: 2958-EC200UEUAA-N05-SGNSATR-ND; Manufacturer Part Number: EC200UEUAA-N05-SGNSA; RoHS: No; Category: Uncategorized; Pricing: 250=17,84728, 500=17,1182 (USD)
footprint EC200UEUAA-N05-SGNSA
pins: 1 WAKEUP_IN, 2 AP_READY, 3 SLEEP_IND, 4 ~{W_DISABLE}, 5 NET_MODE, 6 NET_STATUS, 7 VDD_EXT, 8 GND_1, 9 GND_1, 10 USIM_GND, 11 DBG_RXD, 12 DBG_TXD, 13 USIM_DET, 14 USIM_VDD, 15 USIM_DATA, 16 USIM_CLK, 17 USIM_RST, 18 RESERVED, 19 GND_1, 20 ~{RESET}, 21 PWRKEY, 22 GND_1, 23 SD_DET, 24 PCM_DIN, 25 PCM_DOUT, 26 PCM_SYNC, 27 PCM_CLK, 28 SDIO1_DATA3, 29 SDIO1_DATA2, 30 SDIO1_DATA1, 31 SDIO1_DATA0, 32 SDIO1_CLK, 33 SDIO1_CMD, 34 SDIO1_VDD, 35 ANT_BT/WIFI_SCAN, 36 GND_1, 37 SPI_CS, 38 SPI_DOUT, 39 SPI_DIN, 40 SPI_CLK, 41 I2C_SCL, 42 I2C_SDA, 43 ADC2, 44 ADC1, 45 ADC0, 46 GND_1, 47 ANT_GNSS, 48 GND_1, 49 ANT_MAIN, 50 GND_1, 51 GND_1, 52 GND_1, 53 GND_1, 54 GND_1, 55 RESERVED, 56 GND_1, 57 VBAT_RF, 58 VBAT_RF, 59 VBAT_BB, 60 VBAT_BB, 61 STATUS, 62 MAIN_RI, 63 MAIN_DCD, 64 MAIN_CTS, 65 MAIN_RTS, 66 MAIN_DTR, 67 MAIN_TXD, 68 MAIN_RXD, 69 USB_DP, 70 USB_DM, 71 USB_VBUS, 72 GND_1, 73 LOUDSPK_P, 74 LOUDSPK_N, 75 MIC_P, 76 GND_1, 77 MIC_N, 78 KEYIN1, 79 KEYIN2, 80 KEYIN3, 81 RESERVED, 82 RESERVED, 83 KEYOUT0, 84 KEYOUT1, 85 GND_2, 86 GND_2, 87 GND_2, 88 GND_2, 89 GND_2, 90 GND_2, 91 GND_2, 92 GND_2, 93 GND_2, 94 GND_2, 95 GND_2, 96 GND_2, 97 GND_2, 98 GND_2, 99 GND_2, 100 GND_2, 101 GND_3, 102 GND_3, 103 GND_3, 104 GND_3, 105 GND_3, 106 GND_3, 107 GND_3, 108 GND_3, 109 GND_3, 110 GND_3, 111 GND_3, 112 GND_3, 113 KEYOUT2, 114 KEYOUT3, 115 USB_BOOT, 116 RESERVED, 117 RESERVED, 118 WLAN_SLP_CLK, 119 LCD_FMARK, 120 LCD_RSTB, 121 LCD_SEL, 122 LCD_CS, 123 LCD_CLK, 124 LCD_SDC, 125 LCD_SI/O, 126 GPIO1, 127 WLAN_PWR_EN, 128 USIM2_VDD, 129 SDIO2_DATA3, 130 SDIO2_DATA2, 131 SDIO2_DATA1, 132 SDIO2_DATA0, 133 SDIO2_CLK, 134 SDIO2_CMD, 135 WLAN_WAKE, 136 WLAN_EN, 137 AUX_RXD, 138 AUX_TXD, 139 BT_EN, 140 ISINK, 141 I2C2_SCL, 142 I2C2_SDA, 143 GRFC1, 144 GRFC2

## ESD PESD5V0L1BA
designator D?, comment PESD5V0L1BA
Esd Protection Device, Tvs, 7.6 V, Sod-323, 2 Rohs Compliant: Yes; Manufacturer: NXP Semiconductors; Breakdown Voltage: 7V; Number of Channels: 1NUMBER; Operating Supply Voltage: 5V; Supplier: Rs; Supplier Part Number: 0509447; Manufacturer Part Number: PESD5V0L1BA; RoHS: Yes; Category: TVS Diodes; Pricing: 20=0,211, 200=0,195, 500=0,183, 1000=0,167, 2000=0,154 (EUR); ComponentLink1URL: https://datasheet.ciiva.com/7973/682594-7973878.pdf?src-supplier=Element14; ComponentLink1Description: https://datasheet.ciiva.com/7973/682594-7973878.pdf?src-supplier=Element14
footprint SOT323
pins: A, C

## ESP32-S3R8
designator U?, comment ESP32-S3
RF System on a Chip - SoC SMD IC, Dual-Core MCU, Wi-Fi 2.4G BLE 5.0 Combo; Manufacturer: Espressif Systems; Manufacturer Part Number: ESP32-S3R8; Supplier: Digikey; Supplier Part Number: 1904-ESP32-S3R8DKR-ND; RoHS: No; Category: RF Receivers, Transceivers; Pricing: 1=2,51 (USD); ComponentLink1URL: https://datasheet.octopart.com/ESP32-S3R8-Espressif-Systems-datasheet-165560561.pdf?src-supplier=TME; ComponentLink1Description: https://datasheet.octopart.com/ESP32-S3R8-Espressif-Systems-datasheet-165560561.pdf?src-supplier=TME
footprint ESP32S3
pins: 1 LNA_IN, 2 VDD3P3, 3 VDD3P3, 4 CHIP_PU, 5 GPIO0, 6 GPIO1, 7 GPIO2, 8 GPIO3, 9 GPIO4, 10 GPIO5, 11 GPIO6, 12 GPIO7, 13 GPIO8, 14 GPIO9, 15 GPIO10, 16 GPIO11, 17 GPIO12, 18 GPIO13, 19 GPIO14, 20 VDD3P3_RTC, 21 XTAL_32K_P, 22 XTAL_32K_N, 23 GPIO17, 24 GPIO18, 25 GPIO19, 26 GPIO20, 27 GPIO21, 28 SPICS1, 29 VDD_SPI, 30 SPIHD, 31 SPIWP, 32 SPICS0, 33 SPICLK, 34 SPIQ, 35 SPID, 36 SPICLK_N, 37 SPICLK_P, 38 GPIO33, 39 GPIO34, 40 GPIO35, 41 GPIO36, 42 GPIO37, 43 GPIO38, 44 MTCK, 45 MTDO, 46 VDD3P3_CPU, 47 MTDI, 48 MTMS, 49 U0TXD, 50 U0RXD, 51 GPIO45, 52 GPIO46, 53 XTAL_N, 54 XTAL_P, 55 VDDA1, 56 VDDA2, 57 GND

## Fb 100 Ohm
designator FB?, comment 100OHM
Ferrite Beads Multi-Layer 100Ohm 25% 100MHz 4A 20mOhm DCR 0805 Punched Paper T/R; Manufacturer: TDK; Manufacturer Part Number: MPZ2012S101AT000; Core Material: 228ConductorMaterial; ESR: 20mR; Supplier: Digikey; Supplier Part Number: 445-MPZ2012S101AT000CT-ND; RoHS: Yes; Category: Ferrite Beads and Chips; Stock: 161761; Pricing: 1=0,11, 10=0,076, 25=0,0664, 50=0,0594, 100=0,0533, 250=0,04584, 500=0,04074, 1000=0,03601 (USD); RMS Current (Irms): 4A; Lead Free: 5697LeadFree; ComponentLink1URL: https://datasheet.ciiva.com/46634/beads-commercial-power-mpz-en-46634375.pdf?src-supplier=Digikey; ComponentLink1Description: https://datasheet.ciiva.com/46634/beads-commercial-power-mpz-en-46634375.pdf?src-supplier=Digikey; ComponentLink2URL: https://datasheet.ciiva.com/46634/beads-commercial-power-mpz-en-46634411.pdf?src-supplier=Digikey; ComponentLink2Description: https://datasheet.ciiva.com/46634/beads-commercial-power-mpz-en-46634411.pdf?src-supplier=Digikey; ComponentLink3URL: https://datasheet.ciiva.com/46634/beads-commercial-power-mpz-en-46634415.pdf?src-supplier=Digikey; ComponentLink3Description: https://datasheet.ciiva.com/46634/beads-commercial-power-mpz-en-46634415.pdf?src-supplier=Digikey
footprint FB_0805
pins: 1, 2

## FB_BLM21SP102SH1D
designator FB?, comment 1K
Ferrite Beads Multi-Layer High Current 1KOhm 25% 100MHz 1.6A 0.12Ohm DCR 0805 Automotive T/R; Manufacturer: Murata; Manufacturer Part Number: BLM21SP102SH1D; Core Material: 228ConductorMaterial; Value: 120mR; Supplier: Mouser; Supplier Part Number: 81-BLM21SP102SH1D; RoHS: Yes; Category: Ferrite Beads and Chips; Stock: 4751; Pricing: 1=0,33, 10=0,179, 50=0,179, 100=0,159, 1000=0,105, 10000=0,083 (USD); RMS Current (Irms): 1.6A; ESR: 120mR; Test Frequency: 100MHz; Tolerance: 25%; Height: 1.05mm; ComponentLink1URL: https://datasheet.octopart.com/BLM21SP102SH1D-Murata-datasheet-138707452.pdf?src-supplier=Future+Electronics; ComponentLink1Description: https://datasheet.octopart.com/BLM21SP102SH1D-Murata-datasheet-138707452.pdf?src-supplier=Future+Electronics; ComponentLink2URL: https://www.murata.com/en-us/api/pdfdownloadapi?cate=luNoiseSupprFilteChipFerriBead&amp;partno=BLM21SP102SH1%23&src-supplier=Digikey; ComponentLink2Description: https://www.murata.com/en-us/api/pdfdownloadapi?cate=luNoiseSupprFilteChipFerriBead&amp;partno=BLM21SP102SH1%23&src-supplier=Digikey; ComponentLink3URL: https://datasheet.octopart.com/BLM21SP102SH1D-Murata-datasheet-166171483.pdf?src-supplier=TME; ComponentLink3Description: https://datasheet.octopart.com/BLM21SP102SH1D-Murata-datasheet-166171483.pdf?src-supplier=TME
footprint FB_0805
pins: 1, 2

## FS8205A
designator U?, comment FS8205
20V 6A 19.5mΩ@4.5V, 3A 1.5W 700mV@250uA 58pF@10V 2 N-Channel 466pF@10V 5.7nC@10V -55℃~+150℃@(Tj) SOT-23-6 MOSFETs ROHS; Manufacturer: Tech Public; Manufacturer Part Number: FS8205A; Supplier: LCSC; Supplier Part Number: C2830320; RoHS: No; Category: LDO; Stock: 45480; Pricing: 10=0,0441, 100=0,0331, 300=0,0276, 3000=0,0264, 6000=0,023, 9000=0,0214 (USD)
footprint SOT-23-6
pins: 1 S1, 2 D12, 3 S2, 4 G2, 5 D12, 6 G1

## Header 1X2 2.54 mm
designator J?, comment 1X2
Conn Unshrouded Header HDR 2 POS 2.54mm Solder ST Thru-Hole Automotive Carton; Manufacturer: TE Connectivity; Manufacturer Part Number: 826629-2; Contact Style: 4753ConnectorType; Insulation Resistance: 5GR; Number of Contacts: 2NUMBER; Gender: 29Gender; Current Rating: 5A; Supplier: Avnet; Supplier Part Number: 826629-2; RoHS: Yes; Category: Headers and Wire Housings; Stock: 21749; Pricing: 1=0,15044, 10=0,14915, 30=0,14703, 50=0,14491, 100=0,14279 (USD); Pins: 2NUMBER; Contact Plating: 154,157ConductorMaterial; Color: 49Colour; Housing Color: 49Colour; Housing Material: 175ConductorMaterial; Orientation: 5495OrientationType; Height: 10mm; Lead Pitch: 2.54mm; Row Spacing: 2.54mm; RoHS Compliant: 5897YesNo; Lead Free: 5697LeadFree; ComponentLink1URL: https://www.te.com/commerce/DocumentDelivery/DDEController?Action=srchrtrv&amp;DocNm=826629&amp;DocType=Customer+Drawing&amp;DocLang=English&src-supplier=Digikey; ComponentLink1Description: https://www.te.com/commerce/DocumentDelivery/DDEController?Action=srchrtrv&amp;DocNm=826629&amp;DocType=Customer+Drawing&amp;DocLang=English&src-supplier=Digikey; ComponentLink2URL: https://datasheet.octopart.com/826629-2-TE-Connectivity---AMP-datasheet-17024315.pdf?src-supplier=Element14; ComponentLink2Description: https://datasheet.octopart.com/826629-2-TE-Connectivity---AMP-datasheet-17024315.pdf?src-supplier=Element14; ComponentLink3URL: https://datasheet.octopart.com/826629-2-TE-Connectivity---AMP-datasheet-179310416.pdf?src-supplier=Farnell; ComponentLink3Description: https://datasheet.octopart.com/826629-2-TE-Connectivity---AMP-datasheet-179310416.pdf?src-supplier=Farnell; ComponentLink4URL: https://datasheet.octopart.com/826629-2-TE-Connectivity---AMP-datasheet-44414285.pdf?src-supplier=Electro+Sonic; ComponentLink4Description: https://datasheet.octopart.com/826629-2-TE-Connectivity---AMP-datasheet-44414285.pdf?src-supplier=Electro+Sonic; ComponentLink5URL: https://datasheet.octopart.com/826629-2-TE-Connectivity-datasheet-181566106.pdf?src-supplier=Sager+Electronics; ComponentLink5Description: https://datasheet.octopart.com/826629-2-TE-Connectivity-datasheet-181566106.pdf?src-supplier=Sager+Electronics
footprint Header 1x2 2.54mm
pins: 1, 2

## Header Male 1X6
designator J?, comment 1X6
THT Vertical Pin Header WR-PHD, Pitch 2.54 mm, Single Row, 6 pins; Manufacturer: Wurth Electronics; Manufacturer Part Number: 61300611121; Current Rating: 3A; Voltage Rating: 250V; Number of Positions: 6; Gender: 29Gender; Contact Resistance: 20mR; Pitch: 0.1inch; Supplier: Mouser; Supplier Part Number: 710-61300611121; RoHS: Yes; Category: Headers and Wire Housings; Stock: 8481; Pricing: 1=0,35, 10=0,298, 50=0,207, 100=0,187, 1000=0,171, 10000=0,17 (USD); Mounting Technology: Through Hole; Contact Plating: Gold; Contact Material: Copper Alloy,Copper; Housing Material: PBT; Color: Black; Min Operating Temperature: -40°C; Max Operating Temperature: 125°C; Number of Rows: 1; Contact Gender: Male; Packaging: Bulk; Termination: Through Hole; Number of Contacts: 6; Series: WR-PHD; Contact Type: Male Pin; Operating Supply Voltage: 250V; Orientation: 5495OrientationType; Height: 8.89mm; Contact Mating Length: 0.236inch; RoHS Compliant: Yes; Reach SVHC Compliant: Unknown; Lead Free: 5697LeadFree; ComponentLink1URL: http://www.mouser.com/ds/2/445/6130xx11121-538006.pdf?src-supplier=Mouser; ComponentLink1Description: http://www.mouser.com/ds/2/445/6130xx11121-538006.pdf?src-supplier=Mouser; ComponentLink2URL: http://www.farnell.com/cad/1737268.pdf?src-supplier=Element14; ComponentLink2Description: http://www.farnell.com/cad/1737268.pdf?src-supplier=Element14; ComponentLink3URL: https://datasheet.octopart.com/61300611121-W%C3%BCrth-Elektronik-datasheet-21154836.pdf?src-supplier=Element14; ComponentLink3Description: https://datasheet.octopart.com/61300611121-W%C3%BCrth-Elektronik-datasheet-21154836.pdf?src-supplier=Element14; ComponentLink4URL: https://katalog.we-online.de/em/datasheet/6130xx11121.pdf?src-supplier=Digikey; ComponentLink4Description: https://katalog.we-online.de/em/datasheet/6130xx11121.pdf?src-supplier=Digikey
footprint Header_1X6_2.54mm
pins: 1, 2, 3, 4, 5, 6

## Header_Male_1X4_2.54
designator J?, comment 1X4
THT Vertical Pin Header WR-PHD, Pitch 2.54 mm, Single Row, 4 pins; Manufacturer: Wurth Electronics; Manufacturer Part Number: 61300411121; Number of Positions: 4; Gender: 29Gender; Contact Resistance: 20mR; Current Rating: 3A; Operating Supply Voltage: 250V; Pitch: 0.1inch; Supplier: Digikey; Supplier Part Number: 732-5317-ND; RoHS: Yes; Category: Headers and Wire Housings; Stock: 28749; Pricing: 1=0,17, 10=0,147, 25=0,1216, 50=0,1018, 100=0,0918, 1000=0,085 (USD); Mounting Technology: Through Hole; Contact Plating: Gold; Contact Material: Copper; Color: Black; Min Operating Temperature: -40°C; Max Operating Temperature: 105°C; Number of Rows: 1; Packaging: Bulk; Termination: Solder; Number of Contacts: 4; Series: WR-PHD; Contact Type: Male Pin; Voltage Rating: 250V; Orientation: 5495OrientationType; Height: 8.89mm; Contact Mating Length: 0.236inch; RoHS Compliant: Yes; Reach SVHC Compliant: Unknown; Lead Free: 5697LeadFree; ComponentLink1URL: http://www.farnell.com/cad/1737268.pdf?src-supplier=Element14; ComponentLink1Description: http://www.farnell.com/cad/1737268.pdf?src-supplier=Element14; ComponentLink2URL: https://datasheet.octopart.com/61300411121-W%C3%BCrth-Elektronik-datasheet-21154836.pdf?src-supplier=Element14; ComponentLink2Description: https://datasheet.octopart.com/61300411121-W%C3%BCrth-Elektronik-datasheet-21154836.pdf?src-supplier=Element14; ComponentLink3URL: https://katalog.we-online.de/em/datasheet/6130xx11121.pdf?src-supplier=Digikey; ComponentLink3Description: https://katalog.we-online.de/em/datasheet/6130xx11121.pdf?src-supplier=Digikey
footprint Header_1X4_2.54mm
pins: 1, 2, 3, 4

## Inductor 2.2nH 0603
designator L?, comment 2.2nH
2nH 0603 Inductors (SMD) ROHS; Manufacturer: FH (Guangdong Fenghua Advanced Tech); Manufacturer Part Number: VHF160808H2N0ST
footprint Inductor_0603
pins: 1, 2

## Inductor 47 nH 0603
designator L?, comment 47 nH
Ind RF Chip Shielded Multi-Layer 47nH 20% 50MHz 10Q-Factor Ferrite 200mA 0603 Punched Paper T/R; Manufacturer: TDK EPCOS; Manufacturer Part Number: MLF1608D47NMTA00; Supplier: Mouser; Supplier Part Number: 810-MLF1608D47NMTA00; RoHS: Yes; Category: Fixed Inductors; Stock: 24480; Pricing: 1=0,1, 10=0,084, 50=0,084, 100=0,069, 1000=0,057, 10000=0,044 (USD); ComponentLink1URL: https://datasheet.ciiva.com/29698/inductor-commercial-standard-mlf-en-29698906.pdf?src-supplier=Digikey; ComponentLink1Description: https://datasheet.ciiva.com/29698/inductor-commercial-standard-mlf-en-29698906.pdf?src-supplier=Digikey; ComponentLink2URL: https://datasheet.ciiva.com/29698/inductor-commercial-standard-mlf-en-29698907.pdf?src-supplier=Digikey; ComponentLink2Description: https://datasheet.ciiva.com/29698/inductor-commercial-standard-mlf-en-29698907.pdf?src-supplier=Digikey; ComponentLink3URL: https://datasheet.ciiva.com/29698/inductor-commercial-standard-mlf-en-29698908.pdf?src-supplier=Digikey; ComponentLink3Description: https://datasheet.ciiva.com/29698/inductor-commercial-standard-mlf-en-29698908.pdf?src-supplier=Digikey
footprint Resistor_0603
pins: 1, 2

## Inductor 47uH
designator L?, comment 47uH
Inductor Power Shielded Wirewound 47uH 20% 1KHz Ferrite 1.5A 120mOhm DCR Blister T/R; Manufacturer: TDK; Manufacturer Part Number: SLF10145T-470M1R4-PF; Supplier: Digikey; Supplier Part Number: 445-1985-1-ND; RoHS: Yes; Category: Fixed Inductors; Stock: 1515; Pricing: 1=0,83, 10=0,686, 100=0,564 (USD); Pins: 2NUMBER; Lead Free: 5697LeadFree; ComponentLink1URL: https://datasheet.ciiva.com/3866/print-detail-pdf-phplangenpart-noslf10145t-470m1r4-pfnreimp-unit-3866396.pdf?src-supplier=Arrow+Electronics; ComponentLink1Description: https://datasheet.ciiva.com/3866/print-detail-pdf-phplangenpart-noslf10145t-470m1r4-pfnreimp-unit-3866396.pdf?src-supplier=Arrow+Electronics; ComponentLink2URL: https://datasheet.ciiva.com/16487/slf10145t-470m1r4-pf-16487036.pdf?src-supplier=Future+Electronics; ComponentLink2Description: https://datasheet.ciiva.com/16487/slf10145t-470m1r4-pf-16487036.pdf?src-supplier=Future+Electronics
footprint Inductor 47 uH
pins: 1, 2

## Inductor CYH127-33UH
designator L?, comment 33uH
Manufacturer: SHOU HAN; Manufacturer Part Number: CYH127-33UH; Supplier: LCSC; Supplier Part Number: C2929502; RoHS: No; Category: Uncategorized; Stock: 17550; Pricing: 5=0,2954, 50=0,2427, 150=0,2164, 500=0,1966, 5000=0,1729, 10000=0,1703 (USD)
footprint Inductor 12.3X12.3
pins: 1, 2